# EAGLE library part PCF8574A (library library)
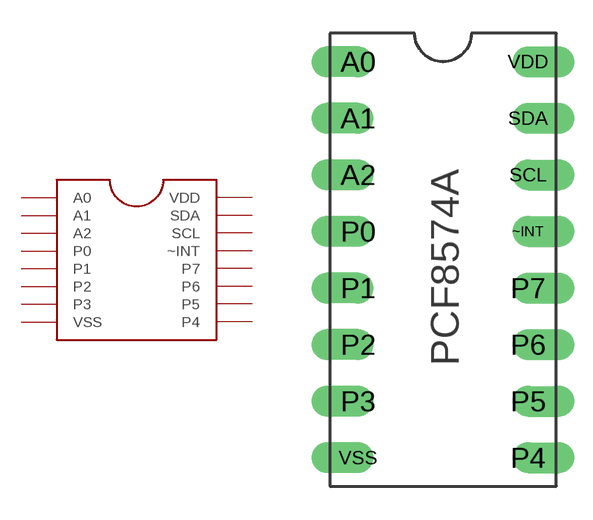
[diagram p8: symbol with the pads of PCF8574A; footprint PCF8574A]

Designator prefix -

## PCF8574A  [PCF8574A]
A0  A0
A1  A1
A2  A2
P0  P0
P1  P1
P2  P2
P3  P3
P4  P4
P5  P5
P6  P6
P7  P7
SCL  SCL
SDA  SDA
VDD  VDD
VSS  VSS
~INT  ~INT

## Footprint PCF8574A (pad centres in mm)
drill 0.889 pad 1.27 offset: A0 0,0; A1 0,-2.54; A2 0,-5.08; P0 0,-7.62; P1 0,-10.16; P2 0,-12.7; P3 0,-15.24; P4 7.62,-17.78; P5 7.62,-15.24; P6 7.62,-12.7; P7 7.62,-10.16; SCL 7.62,-5.08; SDA 7.62,-2.54; VDD 7.62,0; VSS 0,-17.78; ~INT 7.62,-7.62